# Altium footprint library 电容.PCBLIB: 42 footprints (part 2 of 3)
Each footprint in its own frame and in the unit in brackets; x right, y up, seen from the top. Pads: shape width x height; smd on the part's side, far side on the other; paste and mask are expansions set on the pad; w line width, h text height; cw(c..) or ccw(c..) is an arc to the next point about the centre after c.
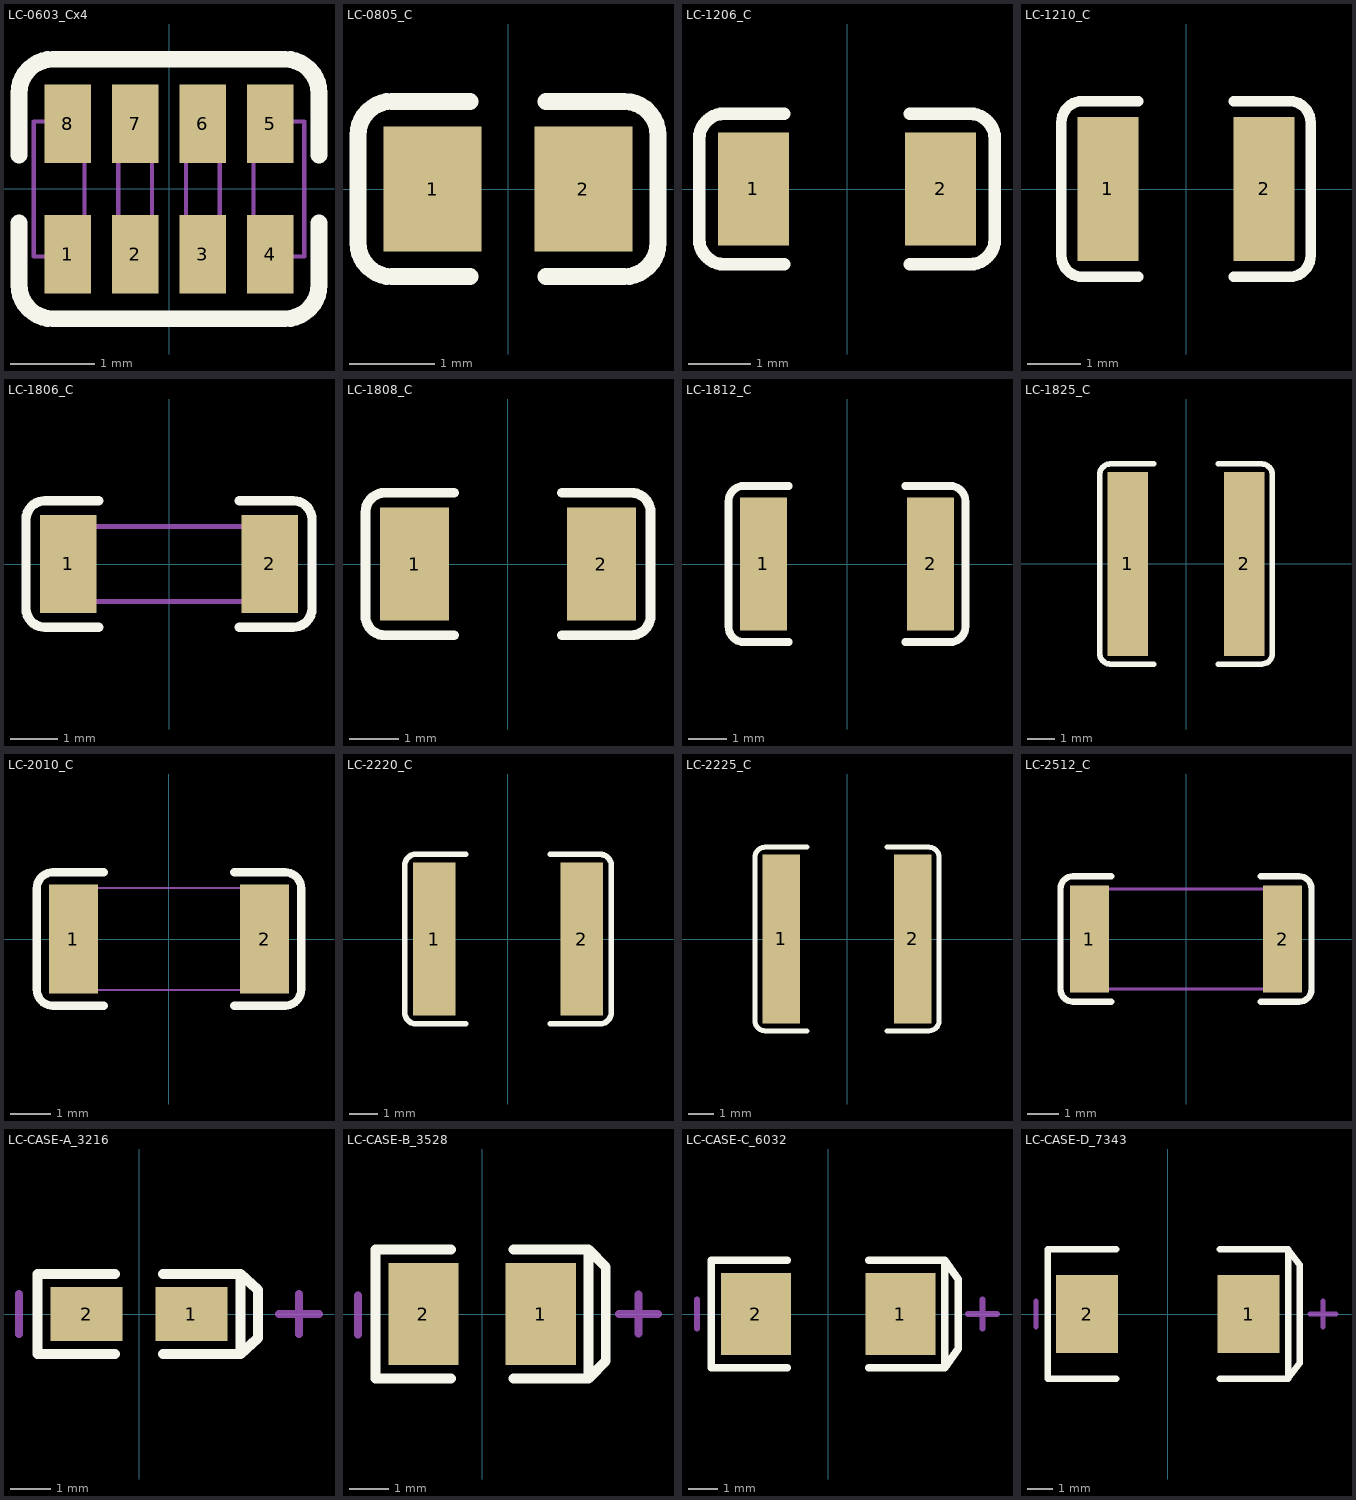
[diagram p1: the footprints below, top view; thin cyan lines are the x and y axes]

## LC-0603_Cx4 [mm]
pads (8):
  rect 0.55x0.93 smd mask+0.051: 1(-1.2,-0.77) 2(-0.4,-0.77) 3(0.4,-0.77) 4(1.2,-0.77) 5(1.2,0.77) 6(0.4,0.77) 7(-0.4,0.77) 8(-1.2,0.77)
TopOverlay:
  lines w0.2: -1.775,-0.4 -1.775,-1.135 ccw(c-1.375,-1.135) -1.375,-1.535 1.375,-1.535 ccw(c1.375,-1.135) 1.775,-1.135 1.775,-0.4 ; -1.775,0.4 -1.775,1.135 cw(c-1.375,1.135) -1.375,1.535 1.375,1.535 cw(c1.375,1.135) 1.775,1.135 1.775,0.4
Mechanical13:
  lines w0.05: -1.6,-0.8 -1.6,0.8 -1,0.8 -1,-0.8 -1.6,-0.8 ; -0.6,-0.8 -0.6,0.8 -0.2,0.8 -0.2,-0.8 -0.6,-0.8 ; 0.2,-0.8 0.2,0.8 0.6,0.8 0.6,-0.8 0.2,-0.8 ; 1,-0.8 1,0.8 1.6,0.8 1.6,-0.8 1,-0.8

## LC-0805_C [mm]
pads (2):
  rect 1.16x1.47 smd: 1(-0.89,0) 2(0.89,0)
TopOverlay:
  lines w0.2: -0.45,-1.035 -1.37,-1.035 cw(c-1.37,-0.635) -1.77,-0.635 -1.77,0.635 cw(c-1.37,0.635) -1.37,1.035 -0.45,1.035 ; 0.45,-1.035 1.37,-1.035 ccw(c1.37,-0.635) 1.77,-0.635 1.77,0.635 ccw(c1.37,0.635) 1.37,1.035 0.45,1.035
3D body: height 0.77, standoff -0.01, extent -0.999,-0.625 1.001,0.625

## LC-1206_C [mm]
pads (2):
  rect 1.13x1.8 smd: 1(-1.49,0) 2(1.49,0)
TopOverlay:
  lines w0.2: -1,-1.2 -1.955,-1.2 cw(c-1.955,-0.8) -2.355,-0.8 -2.355,0.8 cw(c-1.955,0.8) -1.955,1.2 -1,1.2 ; 1,-1.2 1.955,-1.2 ccw(c1.955,-0.8) 2.355,-0.8 2.355,0.8 ccw(c1.955,0.8) 1.955,1.2 1,1.2
3D body: height 1, standoff 0, extent -1.602,-0.813 1.598,0.787

## LC-1210_C [mm]
pads (2):
  rect 1.16x2.72 smd: 1(-1.475,0) 2(1.475,0)
TopOverlay:
  lines w0.2: -0.9,-1.66 -1.955,-1.66 cw(c-1.955,-1.26) -2.355,-1.26 -2.355,1.26 cw(c-1.955,1.26) -1.955,1.66 -0.9,1.66 ; 0.9,-1.66 1.955,-1.66 ccw(c1.955,-1.26) 2.355,-1.26 2.355,1.26 ccw(c1.955,1.26) 1.955,1.66 0.9,1.66
3D body: height 1.3, standoff 0, extent -1.6,-1.25 1.6,1.25

## LC-1806_C [mm]
pads (2):
  rect 1.2x2.1 smd: 1(-2.15,0) 2(2.15,0)
TopOverlay:
  lines w0.2: -1.5,-1.35 -2.65,-1.35 cw(c-2.65,-0.95) -3.05,-0.95 -3.05,0.95 cw(c-2.65,0.95) -2.65,1.35 -1.5,1.35 ; 1.5,-1.35 2.65,-1.35 ccw(c2.65,-0.95) 3.05,-0.95 3.05,0.95 ccw(c2.65,0.95) 2.65,1.35 1.5,1.35
Mechanical13:
  lines w0.1: -2.25,-0.8 -2.25,0.8 2.25,0.8 2.25,-0.8 -2.25,-0.8

## LC-1808_C [mm]
pads (2):
  rect 1.4x2.3 smd: 1(-1.9,0) 2(1.9,0)
TopOverlay:
  lines w0.2: -1.1,-1.45 -2.5,-1.45 cw(c-2.5,-1.05) -2.9,-1.05 -2.9,1.05 cw(c-2.5,1.05) -2.5,1.45 -1.1,1.45 ; 1.1,-1.45 2.5,-1.45 ccw(c2.5,-1.05) 2.9,-1.05 2.9,1.05 ccw(c2.5,1.05) 2.5,1.45 1.1,1.45
3D body: height 0.88, standoff -0.02, extent -2.25,-1 2.25,1

## LC-1812_C [mm]
pads (2):
  rect 1.2x3.42 smd: 1(-2.15,0) 2(2.15,0)
TopOverlay:
  lines w0.2: -1.5,-2.01 -2.65,-2.01 cw(c-2.65,-1.61) -3.05,-1.61 -3.05,1.61 cw(c-2.65,1.61) -2.65,2.01 -1.5,2.01 ; 1.5,-2.01 2.65,-2.01 ccw(c2.65,-1.61) 3.05,-1.61 3.05,1.61 ccw(c2.65,1.61) 2.65,2.01 1.5,2.01
3D body: height 1.6, standoff 0, extent -2.25,-1.6 2.25,1.6

## LC-1825_C [mm]
pads (2):
  rect 1.5x6.81 smd: 1(-2.15,0) 2(2.15,0)
TopOverlay:
  lines w0.203: -1.2,-3.705 -2.8,-3.705 cw(c-2.8,-3.305) -3.2,-3.305 -3.2,3.305 cw(c-2.8,3.305) -2.8,3.705 -1.2,3.705 ; 1.2,-3.705 2.8,-3.705 ccw(c2.8,-3.305) 3.2,-3.305 3.2,3.305 ccw(c2.8,3.305) 2.8,3.705 1.2,3.705
3D body: height 1.3, standoff 0, extent -2.25,-3.2 2.25,3.2

## LC-2010_C [mm]
pads (2):
  rect 1.2x2.67 smd: 1(-2.34,0) 2(2.34,0)
TopOverlay:
  lines w0.2: -1.6,-1.635 -2.84,-1.635 cw(c-2.84,-1.235) -3.24,-1.235 -3.24,1.235 cw(c-2.84,1.235) -2.84,1.635 -1.6,1.635 ; 1.6,-1.635 2.84,-1.635 ccw(c2.84,-1.235) 3.24,-1.235 3.24,1.235 ccw(c2.84,1.235) 2.84,1.635 1.6,1.635
Mechanical13:
  lines w0.05: -2.5,-1.25 -2.5,1.25 2.5,1.25 2.5,-1.25 -2.5,-1.25

## LC-2220_C [mm]
pads (2):
  rect 1.5x5.42 smd: 1(-2.62,0) 2(2.62,0)
TopOverlay:
  lines w0.2: -1.5,-3.01 -3.27,-3.01 cw(c-3.27,-2.61) -3.67,-2.61 -3.67,2.61 cw(c-3.27,2.61) -3.27,3.01 -1.5,3.01 ; 1.5,-3.01 3.27,-3.01 ccw(c3.27,-2.61) 3.67,-2.61 3.67,2.61 ccw(c3.27,2.61) 3.27,3.01 1.5,3.01
3D body: height 2.3, standoff 0, extent -2.85,-2.5 2.85,2.5

## LC-2225_C [mm]
pads (2):
  rect 1.5x6.72 smd: 1(-2.62,0) 2(2.62,0)
TopOverlay:
  lines w0.2: -1.6,-3.66 -3.27,-3.66 cw(c-3.27,-3.26) -3.67,-3.26 -3.67,3.26 cw(c-3.27,3.26) -3.27,3.66 -1.6,3.66 ; 1.6,-3.66 3.27,-3.66 ccw(c3.27,-3.26) 3.67,-3.26 3.67,3.26 ccw(c3.27,3.26) 3.27,3.66 1.6,3.66
3D body: height 1.3, standoff 0, extent -2.85,-3.175 2.85,3.175

## LC-2512_C [mm]
pads (2):
  rect 1.25x3.42 smd: 1(-3.1,0) 2(3.1,0)
TopOverlay:
  lines w0.203: -2.4,-2.01 -3.625,-2.01 cw(c-3.625,-1.61) -4.025,-1.61 -4.025,1.61 cw(c-3.625,1.61) -3.625,2.01 -2.4,2.01 ; 2.4,-2.01 3.625,-2.01 ccw(c3.625,-1.61) 4.025,-1.61 4.025,1.61 ccw(c3.625,1.61) 3.625,2.01 2.4,2.01
Mechanical13:
  lines w0.1: -3.15,-1.6 -3.15,1.6 3.15,1.6 3.15,-1.6 -3.15,-1.6

## LC-CASE-A_3216 [mm]
pads (2):
  rect 1.8x1.35 smd: 1(1.31,0) 2(-1.31,0)
TopOverlay:
  lines w0.254: -0.6,-1.002 -2.537,-1.002 -2.537,1.002 -0.6,1.002 ; 0.6,-1.002 2.537,-1.002 ; 0.6,1.002 2.537,1.002 ; 2.537,-1.002 2.537,1.002 ; 2.537,-1.002 2.973,-0.6 2.973,0.6 2.537,1.002
Mechanical15:
  lines w0.203: -3,-0.5 -3,0.5 ; 3.5,0 4.5,0 ; 4,-0.5 4,0.5
3D body: height 1.71, standoff 0, extent -1.7,-0.84 1.7,0.84

## LC-CASE-B_3528 [mm]
pads (2):
  rect 1.8x2.6 smd: 1(1.5,0) 2(-1.5,0)
TopOverlay:
  lines w0.254: -0.8,-1.65 -2.727,-1.65 -2.727,1.65 -0.8,1.65 ; 0.8,-1.65 2.727,-1.65 ; 0.8,1.65 2.727,1.65 ; 2.727,-1.65 3.163,-1.2 3.163,1.2 2.727,1.65 ; 2.727,-1.65 2.727,1.65
Mechanical15:
  lines w0.203: -3.175,-0.525 -3.175,0.475 ; 3.5,0 4.5,0 ; 4,-0.5 4,0.5
3D body: height 2.03, standoff 0, extent -1.85,-1.465 1.85,1.465

## LC-CASE-C_6032 [mm]
pads (2):
  rect 2.4x2.8 smd: 1(2.48,0) 2(-2.48,0)
TopOverlay:
  lines w0.254: -1.4,-1.85 -4.007,-1.85 -4.007,1.85 -1.4,1.85 ; 1.4,-1.85 4.007,-1.85 ; 1.4,1.85 4.007,1.85 ; 4.007,-1.85 4.47,-1.2 4.47,1.2 4.007,1.85 ; 4.007,-1.85 4.007,1.85
Mechanical15:
  lines w0.203: -4.5,-0.5 -4.5,0.5 ; 4.8,0 5.8,0 ; 5.3,-0.5 5.3,0.5
3D body: height 2.7, standoff 0, extent -3.05,-1.675 3.05,1.675

## LC-CASE-D_7343 [mm]
pads (2):
  rect 2.4x3 smd: 1(3.12,0) 2(-3.12,0)
TopOverlay:
  lines w0.254: -2,-2.5 -4.647,-2.5 -4.647,2.5 -2,2.5 ; 2,-2.5 4.647,-2.5 ; 2,2.5 4.647,2.5 ; 4.647,-2.5 4.647,2.5 ; 4.647,-2.5 5.1,-1.9 5.1,1.9 4.647,2.5
Mechanical15:
  lines w0.203: -5.1,-0.5 -5.1,0.5 ; 5.5,0 6.5,0 ; 6,-0.5 6,0.5
3D body: height 3.01, standoff 0, extent -3.701,-2.225 3.7,2.225